# Altium schematic symbol library axsem_antenna_v1-2.SCHLIB: 7 symbols
Pins are listed as number, name and electrical type; pins without a type are passive.

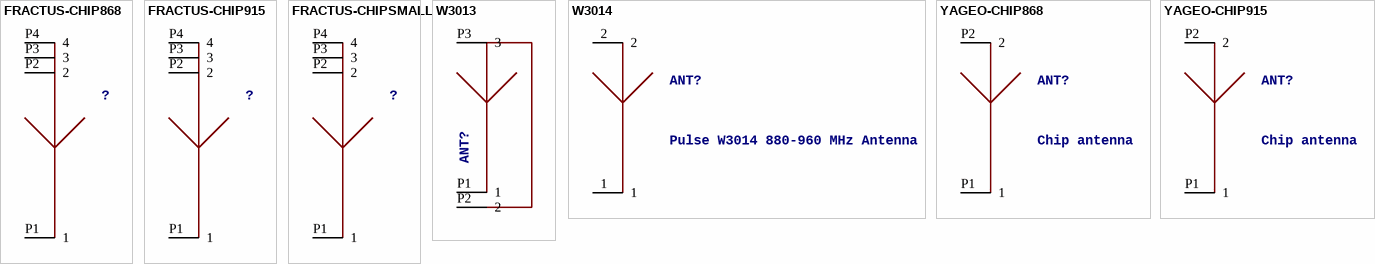
[diagram p0: symbols FRACTUS-CHIP868 to YAGEO-CHIP915]

## FRACTUS-CHIP868
designator ?
footprint FRACTUS-CHIP
pins: P1 1, P2 2, P3 3, P4 4

## FRACTUS-CHIP915
designator ?
footprint FRACTUS-CHIP
pins: P1 1, P2 2, P3 3, P4 4

## FRACTUS-CHIPSMALL
designator ?
footprint FRACTUS-CHIP-SMALL
pins: P1 1, P2 2, P3 3, P4 4

## W3013
designator ANT?
footprint W3013
pins: P1 1, P2 2, P3 3

## W3014
designator ANT?, comment Pulse W3014 880-960 MHz Antenna
footprint W3014
pins: 1, 2

## YAGEO-CHIP868
designator ANT?, comment Chip antenna
footprint YAGEO-CHIP
pins: P1 1, P2 2

## YAGEO-CHIP915
designator ANT?, comment Chip antenna
footprint YAGEO-CHIP
pins: P1 1, P2 2